# Altium schematic symbol library Oscillator.SchLib: 50 symbols
Pins are listed as number, name and electrical type; pins without a type are passive.

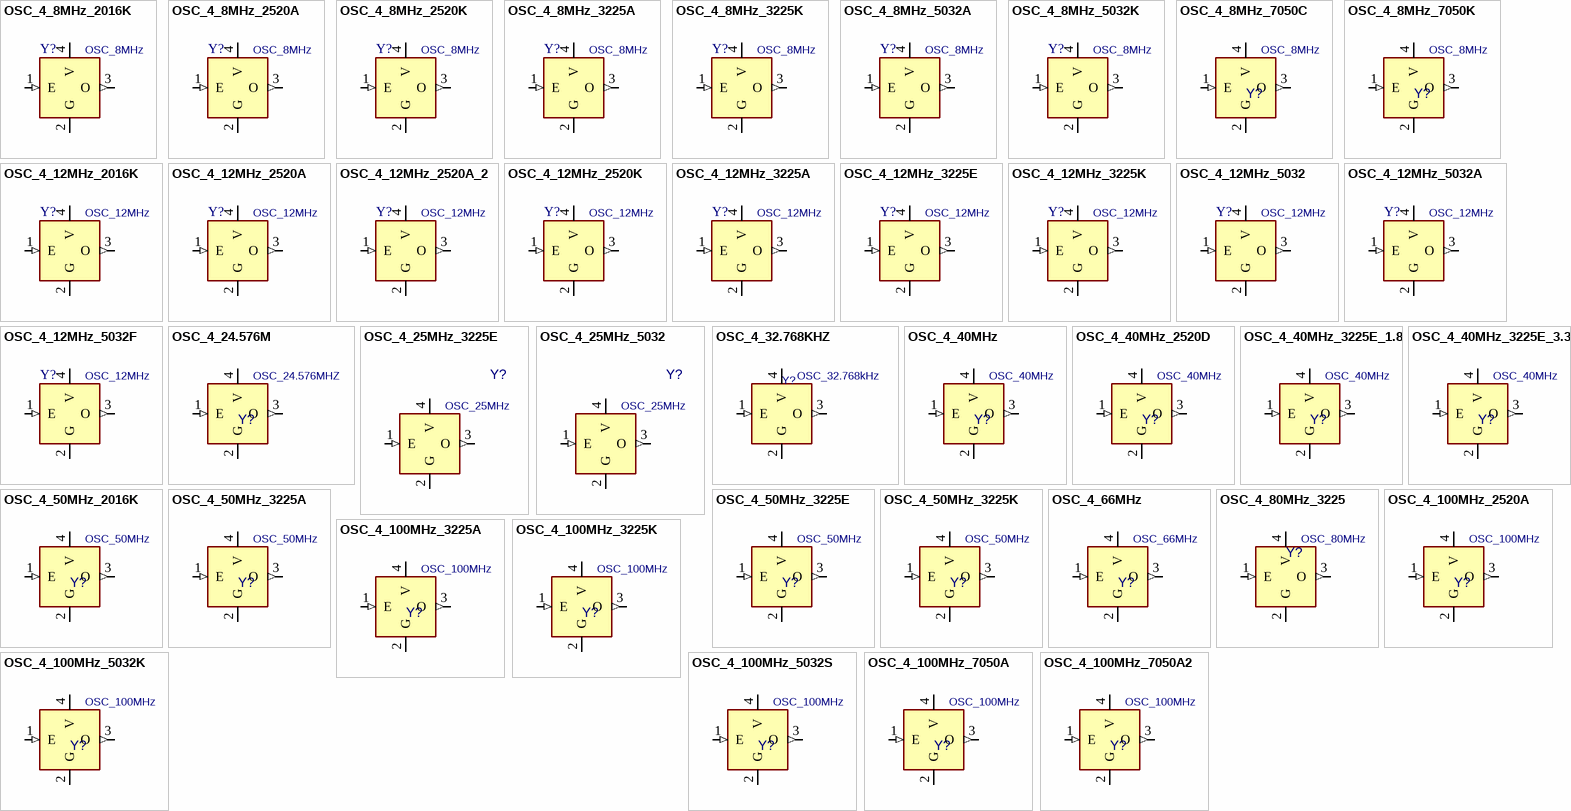
[diagram p0: symbols OSC_4_8MHz_2016K to OSC_4_100MHz_7050A2]

## OSC_4_8MHz_2016K
designator Y?, comment OSC_8MHz
CLOCK OSCILLATOR,; MANF: AVX/Kyocera; PARAM: 50PPM, 15pF, -40~85oC; MANF_P#: KC2016K8.00000C1GE00; PARAM2: 1.8/2.5/3.3V; PRICE: 1.3$; VALUE: OSC_8MHz
footprint XTL_4_2016 (ABM11)
pins: 1 E (in), 2 G (power), 3 O (out), 4 V (power)

## OSC_4_8MHz_2520A
designator Y?, comment OSC_8MHz
CLOCK OSCILLATOR,; MANF: ABRACON; PARAM: 50PPM, 15pF, -40~85oC; MANF_P#: ASDMB-8.000MHZ-LC-T; PARAM2: 1.8~3.3V; PRICE: 1.2$; VALUE: OSC_8MHz
footprint XTL_4_2520 (CRYSTAL OSCILATOR 2.5X2.0mm, ABM10)
pins: 1 E (in), 2 G (power), 3 O (out), 4 V (power)

## OSC_4_8MHz_2520K
designator Y?, comment OSC_8MHz
CLOCK OSCILLATOR,; MANF: AVX/Kyocera; PARAM: 50PPM, 15pF, -40~85oC; MANF_P#: KC2520K8.00000C1GE00; PARAM2: 1.8/2.5/3.3V; PRICE: 1.3$; VALUE: OSC_8MHz
footprint XTL_4_2520 (CRYSTAL OSCILATOR 2.5X2.0mm, ABM10)
pins: 1 E (in), 2 G (power), 3 O (out), 4 V (power)

## OSC_4_8MHz_3225A
designator Y?, comment OSC_8MHz
CLOCK OSCILLATOR,; MANF: ABRACON; PARAM: 50PPM, 15pF, -40~85oC; MANF_P#: ASE-8.000MHZ-L-C-T; PARAM2: 3.3V; PRICE: 1.4$; VALUE: OSC_8MHz
footprint XTL_4_3225GEN (Footprint not found)
pins: 1 E (in), 2 G (power), 3 O (out), 4 V (power)

## OSC_4_8MHz_3225K
designator Y?, comment OSC_8MHz
CLOCK OSCILLATOR,; MANF: AVX/Kyocera; PARAM: 50PPM, 15pF, -40~85oC; MANF_P#: KC3225K8.00000C1GE00; PARAM2: 1.8/2.5/3.3V; PRICE: 1.3$; VALUE: OSC_8MHz
footprint XTL_4_3225GEN (Footprint not found)
pins: 1 E (in), 2 G (power), 3 O (out), 4 V (power)

## OSC_4_8MHz_5032A
designator Y?, comment OSC_8MHz
CLOCK OSCILLATOR, 8MHz; MANF: ABRACON; PARAM: 100PPM, 15pF, -40~85oC; MANF_P#: ASFL1-8.000MHZ-L-T; PARAM2: 3.3V; PRICE: 1.3$; VALUE: OSC_8MHz
footprint XTL_4_5032 (ASFLMB)
pins: 1 E (in), 2 G (power), 3 O (out), 4 V (power)

## OSC_4_8MHz_5032K
designator Y?, comment OSC_8MHz
CLOCK OSCILLATOR, 8MHz; MANF: AVX/Kyocera; PARAM: 50PPM, 15pF, -40~85oC; MANF_P#: KC5032K8.00000C1GE00; PARAM2: 1.8/2.5/3.3V; PRICE: 1.3$; VALUE: OSC_8MHz
footprint XTL_4_5032 (ASFLMB)
pins: 1 E (in), 2 G (power), 3 O (out), 4 V (power)

## OSC_4_8MHz_7050C
designator Y?, comment OSC_8MHz
CLOCK OSCILLATOR, 8MHz, 50PPM; MANF: CTS; PARAM: 50PPM, 50pF, -40~85oC; DESC: DESCRIPTION; DIST#: MOUSER; MANF_P#: CB3LV-3I-8M0000; PARAM2: 3.3V; ASSEMBLY: ASSEMBLY; PRICE: 1.3$; Value: OSC_8MHz
footprint XTL_4_7050GEN (2.5X2 TO 7X5)
pins: 1 E (in), 2 G (power), 3 O (out), 4 V (power)

## OSC_4_8MHz_7050K
designator Y?, comment OSC_8MHz
CLOCK OSCILLATOR, 8MHz, 50PPM; MANF: AVX/Kyocera; PARAM: 50PPM, 15pF, -40~85oC; DESC: DESCRIPTION; DIST#: MOUSER; MANF_P#: KC7050K8.00000C1GE00; PARAM2: 1.8/2.5/3.3V; ASSEMBLY: ASSEMBLY; PRICE: 1.3$; Value: OSC_8MHz
footprint XTL_4_7050GEN (2.5X2 TO 7X5)
pins: 1 E (in), 2 G (power), 3 O (out), 4 V (power)

## OSC_4_12MHz_2016K
designator Y?, comment OSC_12MHz
CLOCK OSCILLATOR,; MANF: Kyocera; PARAM: 50PPM, 15pF, -40~85oC; MANF_P#: KC2016K12.0000C1GE00; PARAM2: 1.8~3.3V; PRICE: 1.3$; VALUE: OSC_12MHz
footprint XTL_4_2016 (ABM11)
pins: 1 E (in), 2 G (power), 3 O (out), 4 V (power)

## OSC_4_12MHz_2520A
designator Y?, comment OSC_12MHz
CLOCK OSCILLATOR,; MANF: ABRACON; PARAM: 50PPM, 15pF; MANF_P#: ASDMB-12.000MHZ-LC-T; PARAM2: 1.8~3.3V; PRICE: 1.2$; VALUE: OSC_12MHz
footprint XTL_4_2520 (CRYSTAL OSCILATOR 2.5X2.0mm, ABM10)
pins: 1 E (in), 2 G (power), 3 O (out), 4 V (power)

## OSC_4_12MHz_2520A_2
designator Y?, comment OSC_12MHz
CLOCK OSCILLATOR,; MANF: ABRACON; PARAM: 50PPM, 15pF; MANF_P#: ASDM1-12.000MHZ-LC-T; PARAM2: 3.3V; PRICE: 1.8$; VALUE: OSC_12MHz
footprint XTL_4_2520 (CRYSTAL OSCILATOR 2.5X2.0mm, ABM10)
pins: 1 E (in), 2 G (power), 3 O (out), 4 V (power)

## OSC_4_12MHz_2520K
designator Y?, comment OSC_12MHz
CLOCK OSCILLATOR,; MANF: Kyocera; PARAM: 50PPM, 15pF; DIST#: KC2520B12.0000C1GE00; MANF_P#: KC2520K12.0000C1GE00; PARAM2: 1.8~3.3V; PRICE: 1.3$; VALUE: OSC_12MHz
footprint XTL_4_2520 (CRYSTAL OSCILATOR 2.5X2.0mm, ABM10)
pins: 1 E (in), 2 G (power), 3 O (out), 4 V (power)

## OSC_4_12MHz_3225A
designator Y?, comment OSC_12MHz
CLOCK OSCILLATOR,; MANF: ABRACON; PARAM: 50PPM; DIST#: ASDMB-12.000MHZ-XY-T; MANF_P#: ASE-12.000MHZ-L-C-T; PARAM2: 3.3V; PRICE: 1.4$; VALUE: OSC_12MHz
footprint XTL_4_3225GEN (Footprint not found)
pins: 1 E (in), 2 G (power), 3 O (out), 4 V (power)

## OSC_4_12MHz_3225E
designator Y?, comment OSC_12MHz
CLOCK OSCILLATOR,; MANF: ECS; PARAM: 10PPM; MANF_P#: ECS-3225S33-120-FN-TR; PARAM2: 3.3V; PRICE: 1.2$; VALUE: OSC_12MHz
footprint XTL_4_3225GEN (Footprint not found)
pins: 1 E (in), 2 G (power), 3 O (out), 4 V (power)

## OSC_4_12MHz_3225K
designator Y?, comment OSC_12MHz
CLOCK OSCILLATOR,; MANF: Kyocera; PARAM: 50PPM, 15pF; MANF_P#: KC3225A30.0000C3GE00; PARAM2: 3.3V; PRICE: 1.5$; VALUE: OSC_12MHz
footprint XTL_4_3225GEN (Footprint not found)
pins: 1 E (in), 2 G (power), 3 O (out), 4 V (power)

## OSC_4_12MHz_5032
designator Y?, comment OSC_12MHz
CLOCK OSCILLATOR,; MANF: Microchip/Micrel; PARAM: 25PPM; MANF_P#: DSC1001BI2-012.0000T; VALUE: OSC_12MHz
footprint XTL_4_5032
pins: 1 E (in), 2 G (power), 3 O (out), 4 V (power)

## OSC_4_12MHz_5032A
designator Y?, comment OSC_12MHz
CLOCK OSCILLATOR,; MANF: ABRACON; PARAM: 25PPM; MANF_P#: ASFLMB-12.000MHZ-LC-T; VALUE: OSC_12MHz
footprint XTL_4_5032
pins: 1 E (in), 2 G (power), 3 O (out), 4 V (power)

## OSC_4_12MHz_5032F
designator Y?, comment OSC_12MHz
CLOCK OSCILLATOR,; MANF: FOX; PARAM: 25PPM; MANF_P#: FXO-HC536R-12.00000; VALUE: OSC_12MHz
footprint XTL_4_5032
pins: 1 E (in), 2 G (power), 3 O (out), 4 V (power)

## OSC_4_24.576M
designator Y?, comment OSC_24.576MHZ
CLOCK OSCILLATOR, 80MHz, 10PPM; MANF: ABRACON; DESC: DESCRIPTION; DIST#: MOUSER; MANF_P#: ASDMB-26.000MHZ-LY-T; ASSEMBLY: ASSEMBLY; PARAM: PARAM; PRICE: 1= 1.9$; PARAM2: 10PPM; Value: OSC_24.576MHZ
footprint XTL_4_2520 (CRYSTAL OSCILATOR 2.5X2.0mm)
pins: 1 E (in), 2 G (power), 3 O (out), 4 V (power)

## OSC_4_25MHz_3225E
designator Y?, comment OSC_25MHz
CLOCK OSCILLATOR, 25MHz, 10PPM, 3.2X2.5mm; MANF: ECS; PARAM: 10PPM, 15pF, -40~85oC; DESC: DESCRIPTION; DIST#: MOUSER; PARAM2: 1.8~3.3V; MANF_P#: ECS-3225S18-250-FN-TR; ASSEMBLY: ASSEMBLY; PRICE: 1= 1.2$; Value: OSC_25MHz
footprint XTL_4_3225GEN (CRYSTAL OSCILATOR 1.2X1.0mm to 3.2X2.5mm)
pins: 1 E (in), 2 G (power), 3 O (out), 4 V (power)

## OSC_4_25MHz_5032
designator Y?, comment OSC_25MHz
CLOCK OSCILLATOR, 25MHz, 10PPM, 3.5X2.5mm; MANF: ABRACON; PARAM: 10PPM, 15pF; DESC: DESCRIPTION; DIST#: MOUSER; PARAM2: 1.8V; MANF_P#: ASEMB-25.000MHZ-XY-T; ASSEMBLY: ASSEMBLY; PRICE: 1= 2.8$; Value: OSC_25MHz
footprint XTL_4_5032
pins: 1 E (in), 2 G (power), 3 O (out), 4 V (power)

## OSC_4_32.768KHZ
designator Y?, comment OSC_32.768kHz
CLOCK OSCILLATOR, 32.768KHz, 2.5X2.0mm; MANF: AVX / Kyocera; MANF_P#: KC2520B32K7680CM2E00; VALUE: OSC_32.768kHz
footprint XTL_4_2520 (CRYSTAL OSCILATOR 2.5X2.0mm)
pins: 1 E (in), 2 G (power), 3 O (out), 4 V (power)

## OSC_4_40MHz
designator Y?, comment OSC_40MHz
CLOCK OSCILLATOR, 40MHz, 20PPM; MANF: IDT, ABRACON; PARAM: 25PPM, 20PPM; DESC: DESCRIPTION; DIST#: MOUSER; MANF_P#: XLH536040.000JS4I8, ASV-40.000MHZ-E-T; PARAM2: 3.3V; ASSEMBLY: ASSEMBLY; PRICE: 1.3$; Value: OSC_40MHz
footprint XTL_4_7050GEN (2.5X2 TO 7X5)
pins: 1 E (in), 2 G (power), 3 O (out), 4 V (power)

## OSC_4_40MHz_2520D
designator Y?, comment OSC_40MHz
CLOCK OSCILLATOR, 40MHz, 10PPM; MANF: Microchip; PARAM: 10PPM, -40~105oC; DESC: DESCRIPTION; DIST#: MOUSER; MANF_P#: DSC1001DL5-040.0000; PARAM2: 1.8~3.3V; ASSEMBLY: ASSEMBLY; PRICE: 1.9$; Value: OSC_40MHz
footprint XTL_4_3225GEN (Footprint not found)
pins: 1 E (in), 2 G (power), 3 O (out), 4 V (power)

## OSC_4_40MHz_3225E_1.8
designator Y?, comment OSC_40MHz
CLOCK OSCILLATOR, 40MHz, 10PPM; MANF: ECS; PARAM: 10PPM, -40~85oC; DESC: DESCRIPTION; DIST#: MOUSER; MANF_P#: ECS-3225S18-400-FN-TR; PARAM2: 1.8V; ASSEMBLY: ASSEMBLY; PRICE: 1.3$; Value: OSC_40MHz
footprint XTL_4_3225GEN (Footprint not found)
pins: 1 E (in), 2 G (power), 3 O (out), 4 V (power)

## OSC_4_40MHz_3225E_3.3
designator Y?, comment OSC_40MHz
CLOCK OSCILLATOR, 40MHz, 10PPM; MANF: ECS; PARAM: 10PPM, -40~85oC; DESC: DESCRIPTION; DIST#: MOUSER; MANF_P#: ECS-3225S33-400-FN-TR; PARAM2: 3.3V; ASSEMBLY: ASSEMBLY; PRICE: 1.3$; Value: OSC_40MHz
footprint XTL_4_3225GEN (Footprint not found)
pins: 1 E (in), 2 G (power), 3 O (out), 4 V (power)

## OSC_4_50MHz_2016K
designator Y?, comment OSC_50MHz
CLOCK OSCILLATOR, 50MHz, 50PPM; MANF: AVX/Kyocera; DESC: DESCRIPTION; DIST#: MOUSER; MANF_P#: MC2016K50.0000C16ESH; PARAM2: 1.6~3.6V, -40~105oC; ASSEMBLY: ASSEMBLY; PARAM: 50PPM; PRICE: 2.4$; Value: OSC_50MHz
footprint XTL_4_3225GEN (CRYSTAL OSCILATOR 1.2X1.0mm to 3.2X2.5mm)
pins: 1 E (in), 2 G (power), 3 O (out), 4 V (power)

## OSC_4_50MHz_3225A
designator Y?, comment OSC_50MHz
CLOCK OSCILLATOR, 50MHz, 50PPM, 3225; MANF: ABRACON; DESC: DESCRIPTION; DIST#: MOUSER; MANF_P#: ASE-50.000MHZ-L-C-T; PARAM2: 3.3V, -40~85oC; ASSEMBLY: ASSEMBLY; PARAM: 50PPM; PRICE: 1.5$; Value: OSC_50MHz
footprint XTL_4_3225GEN (CRYSTAL OSCILATOR 1.2X1.0mm to 3.2X2.5mm)
pins: 1 E (in), 2 G (power), 3 O (out), 4 V (power)

## OSC_4_50MHz_3225E
designator Y?, comment OSC_50MHz
CLOCK OSCILLATOR, 50MHz, 10PPM, 3225; MANF: ECS; DESC: DESCRIPTION; DIST#: MOUSER; MANF_P#: ECS-3225S33-500-FN-TR; PARAM2: 1.8~3.3V, -40~85oC; ASSEMBLY: ASSEMBLY; PARAM: 10PPM; PRICE: 1.2$; Value: OSC_50MHz
footprint XTL_4_3225GEN (CRYSTAL OSCILATOR 1.2X1.0mm to 3.2X2.5mm)
pins: 1 E (in), 2 G (power), 3 O (out), 4 V (power)

## OSC_4_50MHz_3225K
designator Y?, comment OSC_50MHz
CLOCK OSCILLATOR, 50MHz, 50PPM, 3225; MANF: AVX/Kyocera; DESC: DESCRIPTION; DIST#: MOUSER; MANF_P#: KC3225A50.0000C30E00; PARAM2: 3.3V, -10~70oC; ASSEMBLY: ASSEMBLY; PARAM: 50PPM; PRICE: 1.5$; Value: OSC_50MHz
footprint XTL_4_3225GEN (CRYSTAL OSCILATOR 1.2X1.0mm to 3.2X2.5mm)
pins: 1 E (in), 2 G (power), 3 O (out), 4 V (power)

## OSC_4_66MHz
designator Y?, comment OSC_66MHz
CLOCK OSCILLATOR, 80MHz, 10PPM; MANF: ABRACON; DESC: DESCRIPTION; DIST#: MOUSER; MANF_P#: ASFLMB-66.6666MHZ-XY-T; ASSEMBLY: ASSEMBLY; PARAM: PARAM; PRICE: 1= 2.1$; PARAM2: 10PPM; Value: OSC_66MHz
footprint XTL_4_7050GEN (2.5X2 TO 7X5)
pins: 1 E (in), 2 G (power), 3 O (out), 4 V (power)

## OSC_4_80MHz_3225
designator Y?, comment OSC_80MHz
CLOCK OSCILLATOR, 80MHz, 10PPM; MANF: ABRACON; DESC: DESCRIPTION; MANF_P#: ASEMB-80.000MHZ-LY-T; ASSEMBLY: ASSEMBLY; PARAM: PARAM; PRICE: PRICE; Value: OSC_80MHz
footprint XTL_4_3225 (CRYSTAL OSCILATOR 3.2X2.5mm)
pins: 1 E (in), 2 G (power), 3 O (out), 4 V (power)

## OSC_4_100MHz_2520A
designator Y?, comment OSC_100MHz
CLOCK OSCILLATOR, 100MHz, 20PPM; MANF: ABRACON; PARAM: 20PPM, -40~85oC; DESC: DESCRIPTION; DIST#: MOUSER; MANF_P#: ASTMHTD-100.000MHZ-AJ-E; PARAM2: 2.2~3.6V; ASSEMBLY: ASSEMBLY; PRICE: 3$; Value: OSC_100MHz
footprint XTL_4_2520 (CRYSTAL OSCILATOR 2.5X2.0mm, ABM10)
pins: 1 E (in), 2 G (power), 3 O (out), 4 V (power)

## OSC_4_100MHz_3225A
designator Y?, comment OSC_100MHz
CLOCK OSCILLATOR, 100MHz, 20PPM; MANF: ABRACON; PARAM: 20PPM, -40~85oC; DESC: DESCRIPTION; DIST#: MOUSER; MANF_P#: ASTMHTE-100.000MHZ-AJ-E; PARAM2: 2.2~3.6V; ASSEMBLY: ASSEMBLY; PRICE: 3$; Value: OSC_100MHz
footprint XTL_4_3225GEN (CRYSTAL OSCILATOR 1.2X1.0mm to 3.2X2.5mm)
pins: 1 E (in), 2 G (power), 3 O (out), 4 V (power)

## OSC_4_100MHz_3225K
designator Y?, comment OSC_100MHz
CLOCK OSCILLATOR, 100MHz, 50PPM; MANF: Kyocera; PARAM: 50PPM, -40~85oC; DESC: DESCRIPTION; DIST#: MOUSER; MANF_P#: KC3225A100.000C3GE00; PARAM2: 3.3V; ASSEMBLY: ASSEMBLY; PRICE: 2.2$; Value: OSC_100MHz
footprint XTL_4_3225GEN (CRYSTAL OSCILATOR 1.2X1.0mm to 3.2X2.5mm)
pins: 1 E (in), 2 G (power), 3 O (out), 4 V (power)

## OSC_4_100MHz_5032K
designator Y?, comment OSC_100MHz
CLOCK OSCILLATOR, 100MHz, 50PPM; MANF: Kyocera; PARAM: 50PPM, -40~85oC; DESC: DESCRIPTION; DIST#: MOUSER; MANF_P#: KC5032A100.000C1GE00; PARAM2: 1.6~3.6V; ASSEMBLY: ASSEMBLY; PRICE: 1.8$; Value: OSC_100MHz
footprint XTL_4_5032 (ASFLMB)
pins: 1 E (in), 2 G (power), 3 O (out), 4 V (power)

## OSC_4_100MHz_5032S
designator Y?, comment OSC_100MHz
CLOCK OSCILLATOR, 100MHz, 50PPM; MANF: Silicon Labs; PARAM: 50PPM, Si510, -40~85oC; DESC: DESCRIPTION; DIST#: MOUSER; MANF_P#: 510KBA100M000BAG; PARAM2: 1.8V; ASSEMBLY: ASSEMBLY; PRICE: 4.4$; Value: OSC_100MHz
footprint XTL_4_5032 (ASFLMB)
pins: 1 E (in), 2 G (power), 3 O (out), 4 V (power)

## OSC_4_100MHz_7050A
designator Y?, comment OSC_100MHz
CLOCK OSCILLATOR, 100MHz, 10PPM; MANF: ABRACON; PARAM: 10PPM, 0~70oC; DESC: DESCRIPTION; DIST#: MOUSER; MANF_P#: ASFLMB-100.000MHZ-XY-T; PARAM2: 1.7~3.6V; ASSEMBLY: ASSEMBLY; PRICE: 2.3$; Value: OSC_100MHz
footprint XTL_4_7050GEN (2.5X2 TO 7X5)
pins: 1 E (in), 2 G (power), 3 O (out), 4 V (power)

## OSC_4_100MHz_7050A2
designator Y?, comment OSC_100MHz
CLOCK OSCILLATOR, 100MHz, 10PPM; MANF: ABRACON; PARAM: 10PPM, 0~70oC; DESC: DESCRIPTION; DIST#: MOUSER; MANF_P#: ASVMB-100.000MHZ-LY-T; PARAM2: 1.7~3.6V; ASSEMBLY: ASSEMBLY; PRICE: 2.3$; Value: OSC_100MHz
footprint XTL_4_7050GEN (2.5X2 TO 7X5)
pins: 1 E (in), 2 G (power), 3 O (out), 4 V (power)

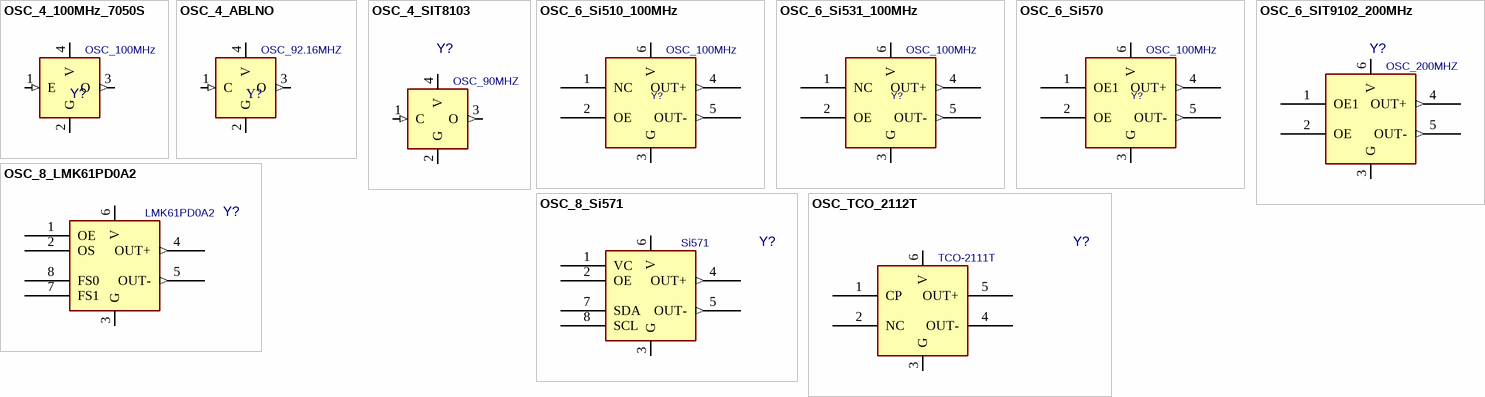
[diagram p1: symbols OSC_4_100MHz_7050S to OSC_TCO_2112T]

## OSC_4_100MHz_7050S
designator Y?, comment OSC_100MHz
CLOCK OSCILLATOR, 100MHz, 50PPM; MANF: Silicon Labs; PARAM: 50PPM, -40~85oC; DESC: DESCRIPTION; DIST#: MOUSER; MANF_P#: 510BBA100M000AAGR; PARAM2: 3.3V; ASSEMBLY: ASSEMBLY; PRICE: 5$; Value: OSC_100MHz
footprint XTL_4_7050GEN (2.5X2 TO 7X5)
pins: 1 E (in), 2 G (power), 3 O (out), 4 V (power)

## OSC_4_ABLNO
designator Y?, comment OSC_92.16MHZ
OSCILLATOR, 80MHz; MANF_P#: ABLNO-V-92.16MHZ; Value: OSC_92.16MHZ
footprint ABLNO (Footprint not found)
pins: 1 C (in), 2 G (power), 3 O (out), 4 V (power)

## OSC_4_SIT8103
designator Y?, comment OSC_90MHZ
OSCILLATOR 90.00000MHZ 3.3V; MANF: SiTime; DESC: DESCRIPTION; DIST#: MOUSER; MANF_P#: SIT8103AC-23-33E-90.0000Y; PARAM2: 50PPM; ASSEMBLY: ASSEMBLY; PARAM: PARAM; PRICE: PRICE; VALUE: OSC_90MHZ
footprint XTL_4_7050GEN (2.5X2 TO 7X5)
pins: 1 C (in), 2 G (power), 3 O (out), 4 V (power)

## OSC_6_Si510_100MHz
designator Y?, comment OSC_100MHz
OSCILLATOR, DIFFERENTIAL LVDS, 100MHZ; MANF: Silicon Labs; MANF_P#: 510BBA100M000AAGR; PARAM2: 3.3V; PARAM: 50PPM, -40~85oC; PRICE: 6$; VALUE: OSC_100MHz
footprint XTL_6_7050 (Crystal Oscillator 6-Lead, 7X5mm)
pins: 1 NC, 2 OE, 3 G (power), 4 OUT+ (out), 5 OUT- (out), 6 V (power)

## OSC_6_Si531_100MHz
designator Y?, comment OSC_100MHz
OSCILLATOR, DIFFERENTIAL LVDS, 100MHZ; MANF: Silicon Labs; MANF_P#: 531BB100M000DG; PARAM2: 3.3V; PARAM: 31.5PPM, -40~85oC; PRICE: 6$; VALUE: OSC_100MHz
footprint XTL_6_7050 (Crystal Oscillator 6-Lead, 7X5mm)
pins: 1 NC, 2 OE, 3 G (power), 4 OUT+ (out), 5 OUT- (out), 6 V (power)

## OSC_6_Si570
designator Y?, comment OSC_100MHz
CLOCK OSCILLATOR,; MANF: CRYSTEK; MANF_P#: CCLD-033-50-100.000; VALUE: OSC_100MHz
footprint XTL_6_7050 (Crystal Oscillator 6-Lead, 7X5mm)
pins: 1 OE1, 2 OE, 3 G (power), 4 OUT+ (out), 5 OUT- (out), 6 V (power)

## OSC_6_SIT9102_200MHz
designator Y?, comment OSC_200MHZ
CLOCK OSCILLATOR, DIFFERENTIAL, 200MHZ; MANF: SiTime; DESC: DESCRIPTION; MANF_P#: SIT9102AI-243N25E200.0000; PARAM2: 50PPM; ASSEMBLY: ASSEMBLY; PARAM: PARAM; PRICE: PRICE; VALUE: OSC_200MHZ
footprint XTL_6_7050 (Crystal Oscillator 6-Lead, 7X5mm)
pins: 1 OE1, 2 OE, 3 G (power), 4 OUT+ (out), 5 OUT- (out), 6 V (power)

## OSC_8_LMK61PD0A2
designator Y?, comment LMK61PD0A2
CLOCK OSCILLATOR, Pin Selectable; MANF: TI; PARAM: 62.5/100/106.25/125/156.25/212.5/312.5MHz; DESC: DESCRIPTION; MANF_P#: LMK61PD0A2-SIA; PARAM2: 3.3V, LVDS/LVPECL/HCSL; ASSEMBLY: ASSEMBLY; PRICE: 15$; Value: LMK61PD0A2
footprint XTL_8_7050 (CRYSTAL OSCILLATOR 7X5mm)
pins: 1 OE, 2 OS, 3 G (power), 4 OUT+ (out), 5 OUT- (out), 6 V (power), 7 FS1, 8 FS0

## OSC_8_Si571
designator Y?, comment Si571
CLOCK OSCILLATOR, VCXO; MANF: Silicon Labs; DESC: DESCRIPTION; ASSEMBLY: ASSEMBLY; PARAM: PARAM; PRICE: PRICE; MANF_P#: Si571; Value: Si571
footprint XTL_8_7050 (CRYSTAL OSCILLATOR 7X5mm)
pins: 1 VC, 2 OE, 3 G (power), 4 OUT+ (out), 5 OUT- (out), 6 V (power), 7 SDA, 8 SCL

## OSC_TCO_2112T
designator Y?, comment TCO-2111T
CLOCK OSCILLATOR, VCXO, 245.76; MANF: EPSON; DESC: DESCRIPTION; MANF_P#: TCO-2111T 491.5200MHZ; ASSEMBLY: ASSEMBLY; PARAM: PARAM; PRICE: PRICE; Value: TCO-2111T
footprint EDSO254_6_1400X900 (TCO-2110 SERIES)
pins: 1 CP, 2 NC, 3 G (power), 4 OUT-, 5 OUT+, 6 V (power)